# Altium footprint library SamacSys.PcbLib: 61 footprints (part 4 of 4)
Each footprint in its own frame and in the unit in brackets; x right, y up, seen from the top. Pads: shape width x height; smd on the part's side, far side on the other; paste and mask are expansions set on the pad; w line width, h text height; cw(c..) or ccw(c..) is an arc to the next point about the centre after c.
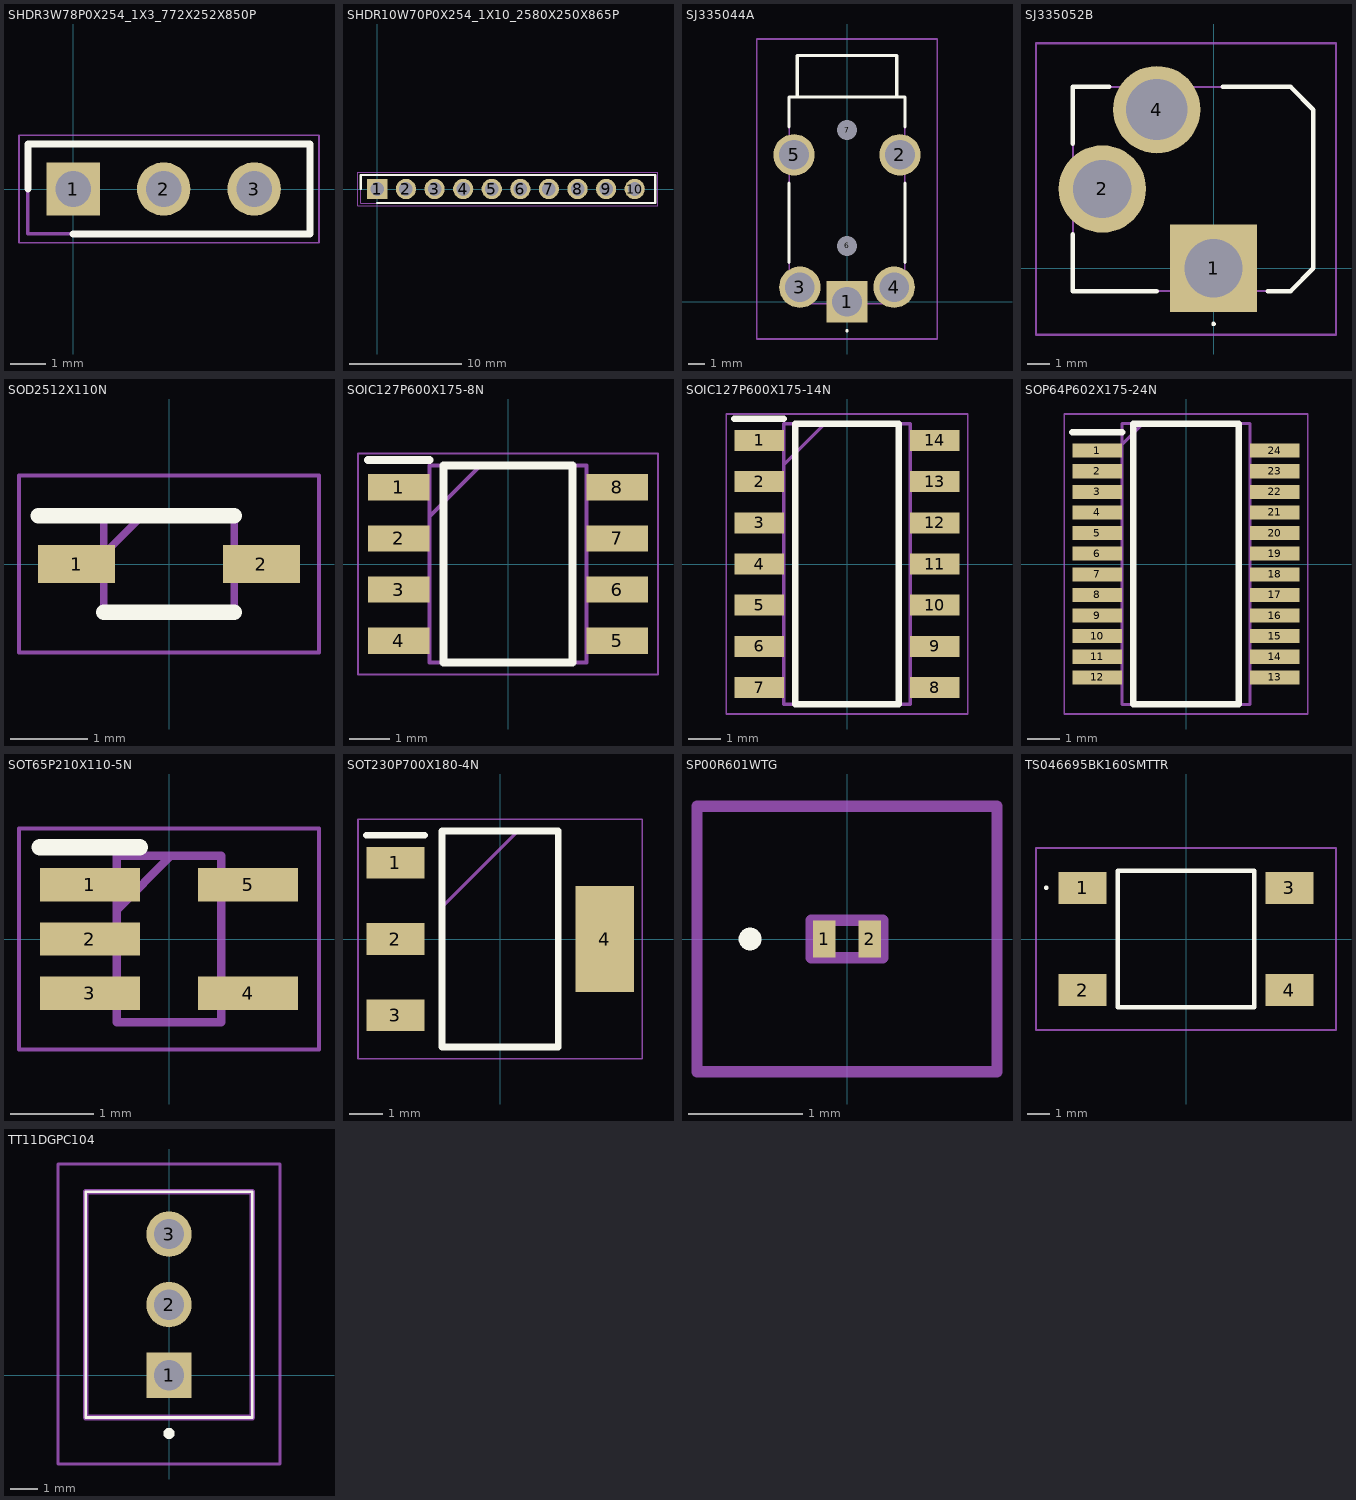
[diagram p3: the footprints below, top view; thin cyan lines are the x and y axes]

## SHDR3W78P0X254_1X3_772X252X850P [mm]
pads (3):
  rect 1.5x1.5 hole 1: 1(0,0)
  round 1.5 hole 1: 2(2.54,0) 3(5.08,0)
Top Overlay:
  lines w0.2: -1.27,0 -1.27,1.26 6.65,1.26 6.65,-1.26 0,-1.26
Mechanical 13:
  lines w0.1: -1.27,-1.26 6.65,-1.26 6.65,1.26 -1.27,1.26 -1.27,-1.26
Mechanical 15:
  lines w0.05: -1.52,-1.51 6.9,-1.51 6.9,1.51 -1.52,1.51 -1.52,-1.51
3D body "215299-3.stp": height 8.54, standoff -2.96, extent -1.27,-1.26 6.35,1.26

## SHDR10W70P0X254_1X10_2580X250X865P [mm]
pads (10):
  rect 1.8x1.8 hole 1.2: 1(0,0)
  round 1.8 hole 1.2: 2(2.54,0) 3(5.08,0) 4(7.62,0) 5(10.16,0) 6(12.7,0) 7(15.24,0) 8(17.78,0) 9(20.32,0) 10(22.86,0)
Top Overlay:
  lines w0.2: -1.47,0 -1.47,1.25 24.68,1.25 24.68,-1.25 0,-1.25
Mechanical 13:
  lines w0.1: -1.47,-1.25 24.68,-1.25 24.68,1.25 -1.47,1.25 -1.47,-1.25
Mechanical 15:
  lines w0.05: -1.72,-1.5 24.93,-1.5 24.93,1.5 -1.72,1.5 -1.72,-1.5
3D body "M20-7821042.stp": height 8.65, standoff -3.25, extent -1.47,-1.25 24.33,1.25

## SJ335044A [mm]
pads (7):
  rect 2.5x2.5 hole 1.8: 1(0,0)
  round 2.5 hole 1.8: 2(3.2,8.88) 3(-2.85,0.88) 4(2.85,0.88) 5(-3.2,8.88)
  round 0.6 hole 1.2 unplated: 6(0,3.38) 7(0,10.38)
Top Overlay:
  lines w0.1: 0,-1.8 cw(c0,-1.75) 0,-1.7 cw(c0,-1.75) 0,-1.8
  lines w0.2: -3.5,2.38 -3.5,7.18 ; -3.5,10.58 -3.5,12.38 3.5,12.38 3.5,10.58 ; -3,12.38 -3,14.88 3,14.88 3,12.38 ; 3.5,2.38 3.5,7.18
Mechanical 13:
  lines w0.1: -3,12.38 -3,14.88 3,14.88 3,12.38 ; -3.5,-0.12 -3.5,12.38 3.5,12.38 3.5,-0.12 -3.5,-0.12
Mechanical 15:
  lines w0.1: -5.45,-2.25 -5.45,15.88 5.45,15.88 5.45,-2.25 -5.45,-2.25
3D body "SJ3-35044A.stp": height 0.79, standoff -7.8, extent -3.899,-0.136 3.899,14.9

## SJ335052B [mm]
pads (3):
  rect 3.855x3.855 hole 2.57: 1(0,0)
  round 3.855 hole 2.57: 2(-4.9,3.5)
  round 3.855 hole 2.7: 4(-2.5,7)
Top Overlay:
  lines w0.1: 0,-2.5 ccw(c0,-2.45) 0,-2.4 ccw(c0,-2.45) 0,-2.5
  lines w0.2: -6.2,1.5 -6.2,-1 -2.5,-1 ; -6.2,5.5 -6.2,8 -4.6,8 ; 0.4,8 3.4,8 4.4,7 4.4,0 3.4,-1 2.4,-1
Mechanical 13:
  lines w0.1: -6.2,-1 -6.2,8 3.4,8 4.4,7 4.4,3.5 4.4,0 3.4,-1 -6.2,-1
Mechanical 15:
  lines w0.1: -7.827,-2.928 -7.827,9.928 5.4,9.928 5.4,-2.928 -7.827,-2.928
3D body "SJ3-35052B.stp": height 17.85, standoff -5, extent -6.2,-1.176 4.4,8.241

## SOD2512X110N [mm]
pads (2):
  rect 1x0.5 smd: 1(-1.2,0) 2(1.2,0)
Top Overlay:
  lines w0.2: -1.7,0.625 0.85,0.625 ; -0.85,-0.625 0.85,-0.625
Mechanical 13:
  lines w0.1: -0.85,0.125 -0.35,0.625 ; -0.85,-0.625 -0.85,0.625 0.85,0.625 0.85,-0.625 -0.85,-0.625
Mechanical 15:
  lines w0.05: -1.95,-1.15 -1.95,1.15 1.95,1.15 1.95,-1.15 -1.95,-1.15
3D body "NSR0530HT1G.stp": height 1.1, standoff 0, extent -1.25,-0.625 1.25,0.625

## SOIC127P600X175-8N [mm]
pads (8):
  rect 1.525x0.65 smd: 1(-2.712,1.905) 2(-2.712,0.635) 3(-2.712,-0.635) 4(-2.712,-1.905) 5(2.712,-1.905) 6(2.712,-0.635) 7(2.712,0.635) 8(2.712,1.905)
Top Overlay:
  lines w0.2: -3.475,2.58 -1.95,2.58 ; -1.6,-2.45 1.6,-2.45 1.6,2.45 -1.6,2.45 -1.6,-2.45
Mechanical 13:
  lines w0.1: -1.95,1.18 -0.68,2.45 ; -1.95,-2.45 1.95,-2.45 1.95,2.45 -1.95,2.45 -1.95,-2.45
Mechanical 15:
  lines w0.05: -3.725,-2.75 3.725,-2.75 3.725,2.75 -3.725,2.75 -3.725,-2.75
3D body "NE555DR.stp": height 1.75, standoff 0, extent -3,-2.45 3,2.45

## SOIC127P600X175-14N [mm]
pads (14):
  rect 1.525x0.65 smd: 1(-2.712,3.81) 2(-2.712,2.54) 3(-2.712,1.27) 4(-2.712,0) 5(-2.712,-1.27) 6(-2.712,-2.54) 7(-2.712,-3.81) 8(2.712,-3.81) 9(2.712,-2.54) 10(2.712,-1.27) 11(2.712,0) 12(2.712,1.27) 13(2.712,2.54) 14(2.712,3.81)
Top Overlay:
  lines w0.2: -3.475,4.485 -1.95,4.485 ; -1.6,-4.325 -1.6,4.325 1.6,4.325 1.6,-4.325 -1.6,-4.325
Mechanical 13:
  lines w0.1: -1.95,3.055 -0.68,4.325 ; -1.95,-4.325 -1.95,4.325 1.95,4.325 1.95,-4.325 -1.95,-4.325
Mechanical 15:
  lines w0.05: -3.725,-4.625 -3.725,4.625 3.725,4.625 3.725,-4.625 -3.725,-4.625
3D body "LM324M_NOPB.stp": height 1.75, standoff 0, extent -3.013,-4.315 3.013,4.335

## SOP64P602X175-24N [mm]
pads (24):
  rect 1.53x0.435 smd: 1(-2.735,3.492) 2(-2.735,2.858) 3(-2.735,2.222) 4(-2.735,1.588) 5(-2.735,0.952) 6(-2.735,0.318) 7(-2.735,-0.318) 8(-2.735,-0.952) 9(-2.735,-1.588) 10(-2.735,-2.222) 11(-2.735,-2.858) 12(-2.735,-3.492) 13(2.735,-3.492) 14(2.735,-2.858) 15(2.735,-2.222) 16(2.735,-1.588) 17(2.735,-0.952) 18(2.735,-0.318) 19(2.735,0.318) 20(2.735,0.952) 21(2.735,1.588) 22(2.735,2.222) 23(2.735,2.858) 24(2.735,3.492)
Top Overlay:
  lines w0.2: -3.5,4.06 -1.97,4.06 ; -1.62,-4.325 -1.62,4.325 1.62,4.325 1.62,-4.325 -1.62,-4.325
Mechanical 13:
  lines w0.1: -1.97,3.69 -1.335,4.325 ; -1.97,-4.325 -1.97,4.325 1.97,4.325 1.97,-4.325 -1.97,-4.325
Mechanical 15:
  lines w0.05: -3.75,-4.62 -3.75,4.62 3.75,4.62 3.75,-4.62 -3.75,-4.62
3D body "MAX1230BEEG+.stp": height 1.75, standoff 0, extent -3.01,-4.325 3.01,4.325

## SOT65P210X110-5N [mm]
pads (5):
  rect 1.2x0.4 smd: 1(-0.95,0.65) 2(-0.95,0) 3(-0.95,-0.65) 4(0.95,-0.65) 5(0.95,0.65)
Top Overlay:
  lines w0.2: -1.55,1.1 -0.35,1.1
Mechanical 13:
  lines w0.1: -0.625,0.35 0.025,1 ; -0.625,-1 -0.625,1 0.625,1 0.625,-1 -0.625,-1
Mechanical 15:
  lines w0.05: -1.8,-1.325 -1.8,1.325 1.8,1.325 1.8,-1.325 -1.8,-1.325
3D body "OPA991TIDCKR.stp": height 1, standoff 0, extent -1.05,-1 1.05,1

## SOT230P700X180-4N [mm]
pads (4):
  rect 1.75x0.95 smd: 1(-3.15,2.3) 2(-3.15,0) 3(-3.15,-2.3)
  rect 1.75x3.2 smd: 4(3.15,0)
Top Overlay:
  lines w0.2: -4.025,3.125 -2.275,3.125 ; -1.75,-3.25 -1.75,3.25 1.75,3.25 1.75,-3.25 -1.75,-3.25
Mechanical 13:
  lines w0.1: -1.75,0.95 0.55,3.25 ; -1.75,-3.25 -1.75,3.25 1.75,3.25 1.75,-3.25 -1.75,-3.25
Mechanical 15:
  lines w0.05: -4.275,-3.6 -4.275,3.6 4.275,3.6 4.275,-3.6 -4.275,-3.6
3D body "LM2940IMPX-5.0_NOPB.stp": height 1.68, standoff 0, extent -3.5,-3.25 3.5,3.25

## SP00R601WTG [mm]
pads (2):
  rect 0.195x0.325 smd: 1(-0.2,0) 2(0.2,0)
Top Overlay:
  lines w0.1: -0.9,0 ccw(c-0.85,0) -0.8,0 ccw(c-0.85,0) -0.9,0
Mechanical 13:
  lines w0.1: -0.315,-0.165 -0.315,0.165 0.315,0.165 0.315,-0.165 -0.315,-0.165
Mechanical 15:
  lines w0.1: -1.315,-1.165 -1.315,1.165 1.315,1.165 1.315,-1.165 -1.315,-1.165
3D body "SP00R6-01WTG.stp": height 0.43, standoff 0, extent -0.315,-0.165 0.315,0.165

## TS046695BK160SMTTR [mm]
pads (4):
  rect 2.1x1.4 smd: 1(-4.55,2.25) 2(-4.55,-2.25) 3(4.55,2.25) 4(4.55,-2.25)
Top Overlay:
  lines w0.1: -6.2,2.25 cw(c-6.15,2.25) -6.1,2.25 cw(c-6.15,2.25) -6.2,2.25
  lines w0.2: -3,-3 -3,3 3,3 3,-3 -3,-3
Mechanical 13:
  lines w0.1: -3,-3 -3,3 3,3 3,-3 -3,-3
Mechanical 15:
  lines w0.1: -6.6,-4 -6.6,4 6.6,4 6.6,-4 -6.6,-4
3D body "TS04-66-95-BK-160-SMT-TR.stp": height 9.6, standoff 0, extent -5,-3 5,3

## TT11DGPC104 [mm]
pads (3):
  rect 1.635x1.635 hole 1.09: 1(0,0)
  round 1.635 hole 1.09: 2(0,2.54) 3(0,5.08)
Top Overlay:
  lines w0.1: -3,-1.525 -3,6.605 3,6.605 3,-1.525 -3,-1.525
  lines w0.2: 0,-2.2 ccw(c0,-2.1) 0,-2 ccw(c0,-2.1) 0,-2.2
Mechanical 13:
  lines w0.2: -3,-1.525 -3,6.605 3,6.605 3,-1.525 -3,-1.525
Mechanical 15:
  lines w0.1: -4,-3.2 -4,7.605 4,7.605 4,-3.2 -4,-3.2
3D body "TT11DGPC104.stp": height 19.48, standoff -5, extent -3,-1.525 3,6.605